# Altium footprint library 150060RS75000.PcbLib: 1 footprints
Each footprint in its own frame and in the unit in brackets; x right, y up, seen from the top. Pads: shape width x height; smd on the part's side, far side on the other; paste and mask are expansions set on the pad; w line width, h text height; cw(c..) or ccw(c..) is an arc to the next point about the centre after c.
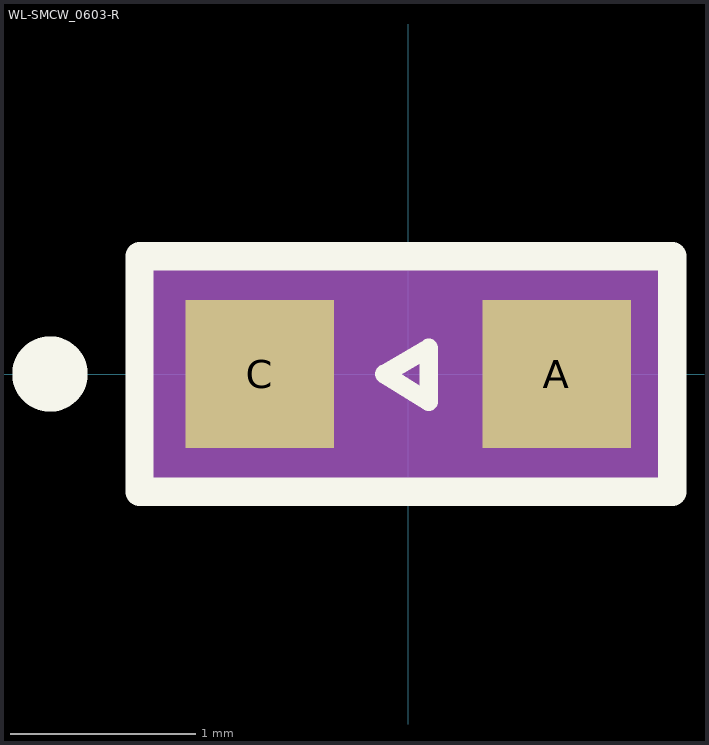
[diagram p0: the footprint, top view; thin cyan lines are the x and y axes]

## WL-SMCW_0603-R [mm]
pads (2):
  rect 0.8x0.8 smd: A(0.8,0) C(-0.8,0)
Top Overlay:
  circle w0.254: c-1.93,0 r0.076
  lines w0.1: -0.13,0 0.11,0.14 0.11,-0.15 -0.13,0
  lines w0.152: -1.448,-0.635 1.422,-0.635 1.422,0.635 -1.448,0.635 -1.448,-0.635
Assembly Top:
  lines w0.1: -0.8,-0.4 0.8,-0.4 0.8,0.4 -0.8,0.4 -0.8,-0.4 ; -0.13,0 0.11,0.14 0.11,-0.15 -0.13,0
Courtyard Top:
  region: 1.4,-0.7 -1.4,-0.7 -1.4,0.7 1.4,0.7
3D body "RED-LED-SMD-0603--3DModel.STP": height 0.7, standoff 0, extent -0.825,-0.4 0.775,0.4